# EAGLE library part ARDUINO-X (library arduino)
Extended Body Arduino
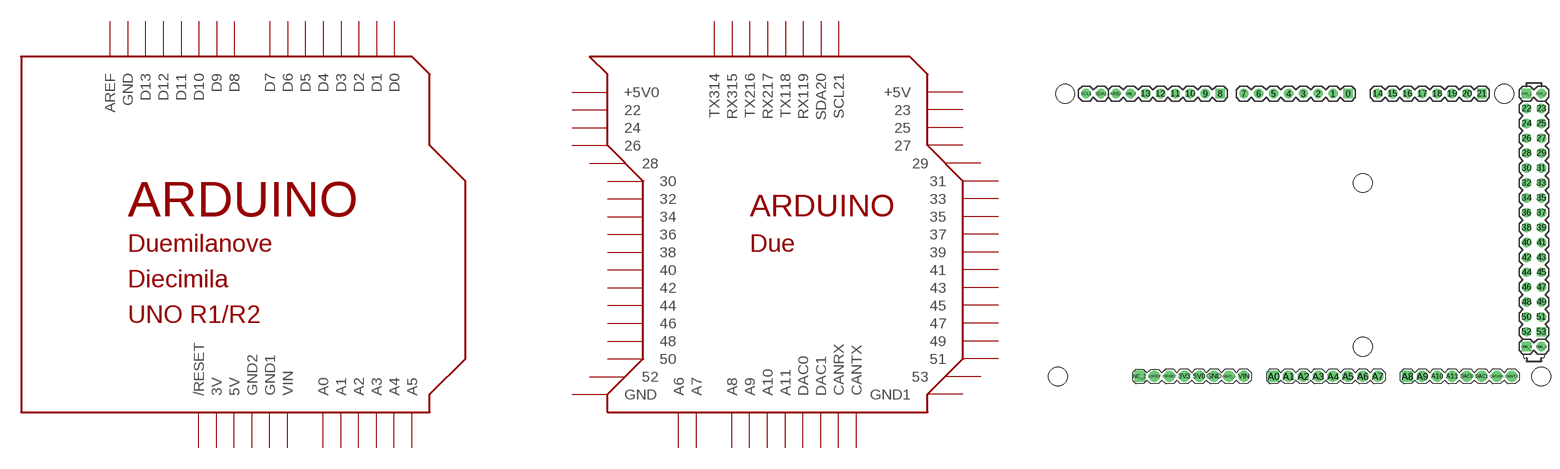
[diagram p122: symbol with the pads of ARDUINO_DUE_SHIELD; footprint ARDUINO_DUE_SHIELD]

Designator prefix -; gates G$1=ARDUINO G$2=ARDUINO-X

## ARDUINO-X  [ARDUINO_DUE_SHIELD]
0  G$1:D0
1  G$1:D1
2  G$1:D2
3  G$1:D3
3V3  G$1:3V  pwr
4  G$1:D4
5  G$1:D5
5V0  G$1:5V  pwr
5V0_1  G$2:+5V  sup
5V0_2  G$2:+5V0  sup
6  G$1:D6
7  G$1:D7
8  G$1:D8
9  G$1:D9
10  G$1:D10
11  G$1:D11
12  G$1:D12
13  G$1:D13
14  G$2:TX314
15  G$2:RX315
16  G$2:TX216
17  G$2:RX217
18  G$2:TX118
19  G$2:RX119
20  G$2:SDA20
21  G$2:SCL21
22  G$2:22
23  G$2:23
24  G$2:24
25  G$2:25
26  G$2:26
27  G$2:27
28  G$2:28
29  G$2:29
30  G$2:30
31  G$2:31
32  G$2:32
33  G$2:33
34  G$2:34
35  G$2:35
36  G$2:36
37  G$2:37
38  G$2:38
39  G$2:39
40  G$2:40
41  G$2:41
42  G$2:42
43  G$2:43
44  G$2:44
45  G$2:45
46  G$2:46
47  G$2:47
48  G$2:48
49  G$2:49
50  G$2:50
51  G$2:51
52  G$2:52
53  G$2:53
A0  G$1:A0
A1  G$1:A1
A2  G$1:A2
A3  G$1:A3
A4  G$1:A4
A5  G$1:A5
A6  G$2:A6
A7  G$2:A7
A8  G$2:A8
A9  G$2:A9
A10  G$2:A10
A11  G$2:A11
AREF  G$1:AREF
CANRX  G$2:CANRX
CANTX  G$2:CANTX
DAC0  G$2:DAC0
DAC1  G$2:DAC1
GND  G$1:GND  pwr
GND_1  G$1:GND1  pwr
GND_2  G$1:GND2  pwr
GND_3  G$2:GND  sup
GND_4  G$2:GND1  sup
RESET  G$1:/RESET
VIN  G$1:VIN  pwr

## Footprint ARDUINO_DUE_SHIELD (pad centres in mm)
Arudiono Due Shield
drill 1.067 square: 0 63.5,50.8; 5V0_1 93.98,50.8; 8 41.656,50.8; 21 86.36,50.8; 53 96.52,10.16; GND_4 93.98,7.62
drill 1.067: 1 60.96,50.8; 2 58.42,50.8; 3 55.88,50.8; 4 53.34,50.8; 5 50.8,50.8; 5V0_2 96.52,50.8; 6 48.26,50.8; 7 45.72,50.8; 9 39.116,50.8; 10 36.576,50.8; 11 34.036,50.8; 12 31.496,50.8; 13 28.956,50.8; 14 68.58,50.8; 15 71.12,50.8; 16 73.66,50.8; 17 76.2,50.8; 18 78.74,50.8; 19 81.28,50.8; 20 83.82,50.8; 22 93.98,48.26; 23 96.52,48.26; 24 93.98,45.72; 25 96.52,45.72; 26 93.98,43.18; 27 96.52,43.18; 28 93.98,40.64; 29 96.52,40.64; 30 93.98,38.1; 31 96.52,38.1; 32 93.98,35.56; 33 96.52,35.56; 34 93.98,33.02; 35 96.52,33.02; 36 93.98,30.48; 37 96.52,30.48; 38 93.98,27.94; 39 96.52,27.94; 40 93.98,25.4; 41 96.52,25.4; 42 93.98,22.86; 43 96.52,22.86; 44 93.98,20.32; 45 96.52,20.32; 46 93.98,17.78; 47 96.52,17.78; 48 93.98,15.24; 49 96.52,15.24; 50 93.98,12.7; 51 96.52,12.7; 52 93.98,10.16; AREF 23.876,50.8; GND_2 26.416,50.8; GND_3 96.52,7.62; SCL1 18.796,50.8; SDA1 21.336,50.8
drill 1.016 pad 1.88: 3V3 35.56,2.54; 5V0 38.1,2.54; A1 53.34,2.54; A2 55.88,2.54; A3 58.42,2.54; A4 60.96,2.54; A5 63.5,2.54; A6 66.04,2.54; A7 68.58,2.54; A9 76.2,2.54; A10 78.74,2.54; A11 81.28,2.54; CANRX 88.9,2.54; CANTX 91.44,2.54; DAC0 83.82,2.54; DAC1 86.36,2.54; GND 40.64,2.54; GND_1 43.18,2.54; IOREF 30.48,2.54; RESET 33.02,2.54; VIN 45.72,2.54
drill 1.016 pad 1.88 square: A0 50.8,2.54; A8 73.66,2.54; NC_2 27.94,2.54
hole 3.2 at 96.52,2.54
hole 3.2 at 15.24,50.8
hole 3.2 at 90.17,50.8
hole 3.2 at 13.97,2.54
hole 3.2 at 66.04,35.56
hole 3.2 at 66.04,7.62